# EAGLE library part AVR_PROG_JTAG (library #PaJa_konektory)
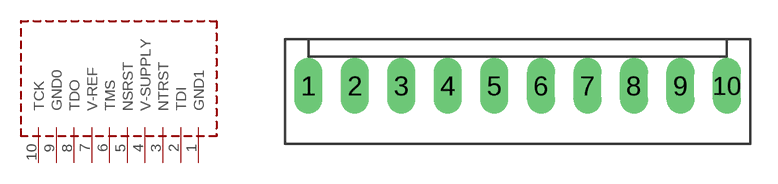
[diagram p37: symbol with the pads of PSH02-10P; footprint PSH02-10P]

Designator prefix -

## AVR_PROG_JTAG  [PSH02-10P]
1  GND1  sup
2  TDI
3  NTRST
4  V-SUPPLY  sup
5  NSRST
6  TMS
7  V-REF
8  TDO
9  GND0  sup
10  TCK

## Footprint PSH02-10P (pad centres in mm)
drill 1.016 pad 1.422 long: 1 -11.43,0; 2 -8.89,0; 3 -6.35,0; 4 -3.81,0; 5 -1.27,0; 6 1.27,0; 7 3.81,0; 8 6.35,0; 9 8.89,0; 10 11.43,0